# Altium schematic symbol library Transistors.SchLib: 11 symbols
Pins are listed as number, name and electrical type; pins without a type are passive.

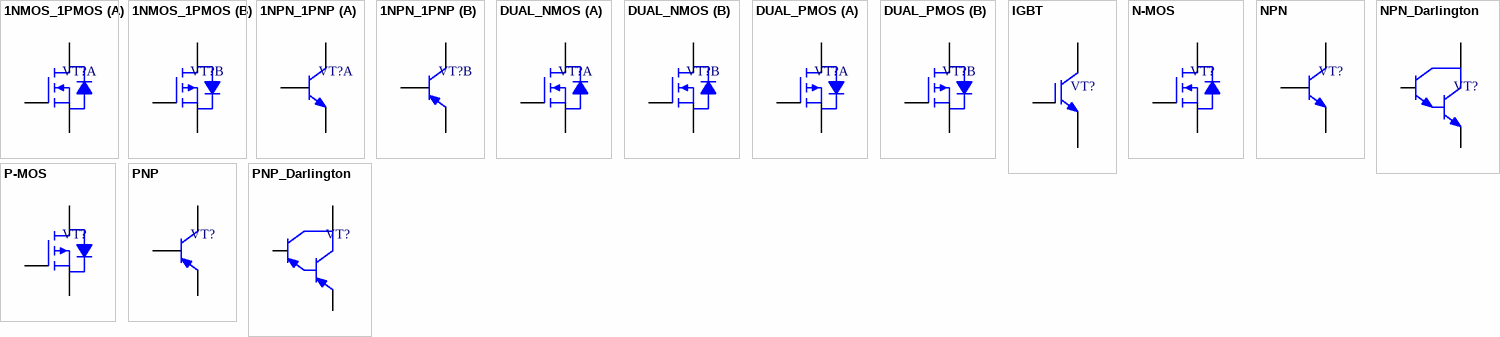
[diagram p0: symbols 1NMOS_1PMOS to PNP_Darlington]

## 1NMOS_1PMOS
designator VT?
part A pins: 1 S1, 2 G1, 6 D1
part B pins: 3 D2, 4 S2, 5 G2

## 1NPN_1PNP
designator VT?
part A pins: 1 ENPN, 2 BNPN, 6 CNPN
part B pins: 3 CPNP, 4 EPNP, 5 BPNP

## DUAL_NMOS
designator VT?
part A pins: 1 S1, 2 G1, 6 D1
part B pins: 3 D2, 4 S2, 5 G2

## DUAL_PMOS
designator VT?
part A pins: 1 S1, 2 G1, 6 D1
part B pins: 3 D2, 4 S2, 5 G2

## IGBT
designator VT?
pins: X G, Y C, Z E

## N-MOS
designator VT?
pins: X G, Y D, Z S

## NPN
designator VT?
pins: X B, Y C, Z E

## NPN_Darlington
designator VT?
pins: X B, Y C, Z E

## P-MOS
designator VT?
pins: X G, Y D, Z S

## PNP
designator VT?
pins: X B, Y C, Z E

## PNP_Darlington
designator VT?
pins: X B, Y C, Z E